# EAGLE library part CON_DF57_POS6 (library James_custom)
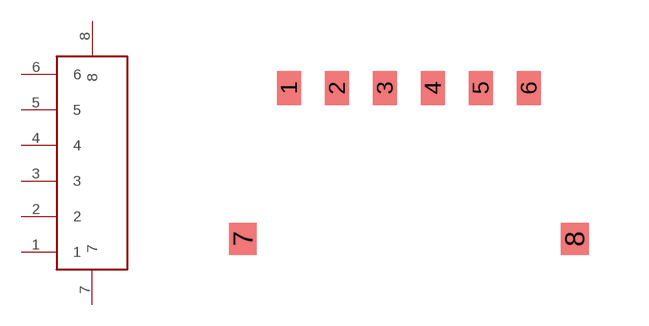
[diagram p13: symbol with the pads of CON_DF57_POS6; footprint CON_DF57_POS6]

Designator prefix -

## CON_DF57_POS6  [CON_DF57_POS6]
1  1
2  2
3  3
4  4
5  5
6  6
7  7
8  8

## Footprint CON_DF57_POS6 (pad centres in mm)
smd 0.6 x 0.85: 1 -3,1.887; 2 -1.8,1.887; 3 -0.6,1.887; 4 0.6,1.887; 5 1.8,1.887; 6 3,1.887
smd 0.7 x 0.8: 7 -4.15,-1.887; 8 4.15,-1.887